# Altium schematic symbol library IC. Logic RUS.SchLib: 5 symbols
Pins are listed as number, name and electrical type; pins without a type are passive.

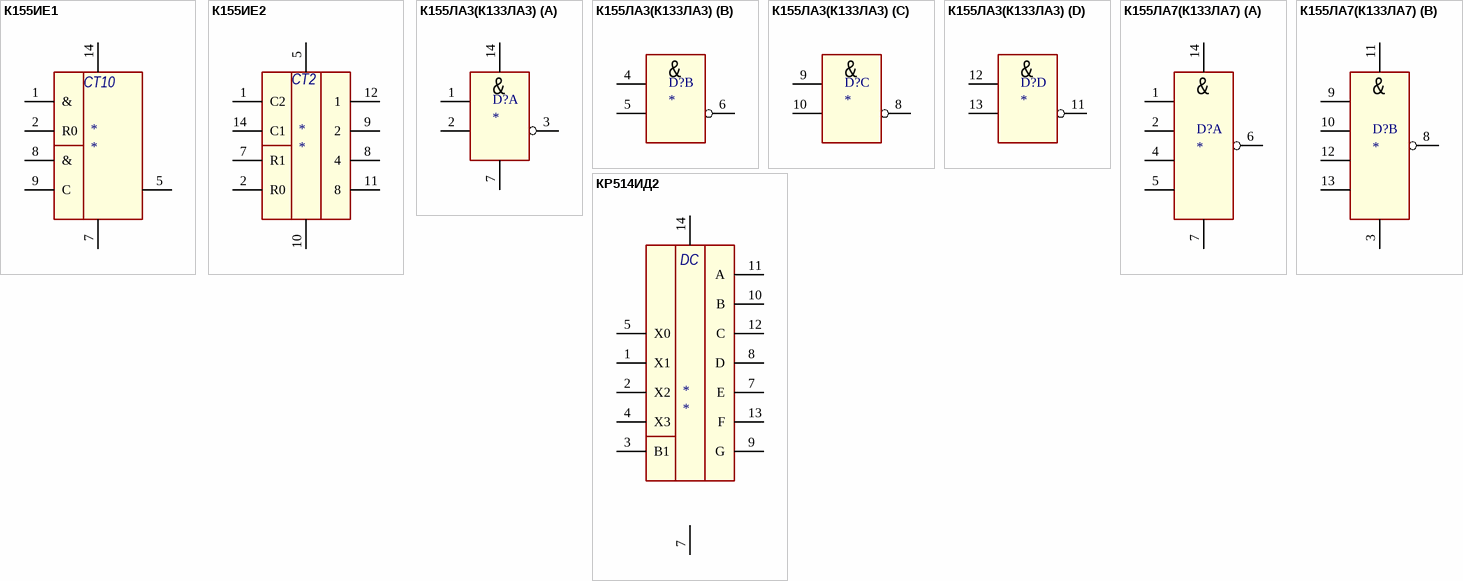
[diagram p0: symbols К155ИЕ1 to КР514ИД2]

## К155ИЕ1
designator *
footprint 14-DIP
pins: 1 &, 2 R0, 5, 7, 8 &, 9 C, 14
text: CT10

## К155ИЕ2
designator *
pins: 1 C2, 2 R0, 5 14, 7 R1, 8 4, 9 2, 10 7, 11 8, 12 1, 14 C1
text: CT2

## К155ЛА3(К133ЛА3)
designator D?
footprint 14-DIP
part A pins: 1, 2, 3, 7 (power), 14 (power)
part B pins: 4, 5, 6
part C pins: 8, 9, 10
part D pins: 11, 12, 13
part A text: &
part B text: &
part C text: &
part D text: &

## К155ЛА7(К133ЛА7)
designator D?
footprint 14-DIP
part A pins: 1, 2, 4, 5, 6, 7 (power), 14 (power)
part B pins: 3 NC, 8, 9, 10, 11 NC, 12, 13
part A text: &
part B text: &

## КР514ИД2
designator *
pins: 1 X1, 2 X2, 3 B1, 4 X3, 5 X0, 7, 7 E, 8 D, 9 G, 10 B, 11 A, 12 C, 13 F, 14
text: DC